# EAGLE library part ARDUINO-NANO-JUMPER-1 (library RC Car)
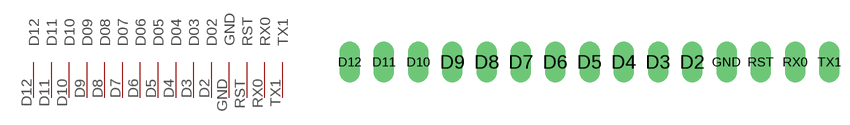
[diagram p2: symbol with the pads of ARDUINO-NANO-JUMPER-1; footprint ARDUINO-NANO-JUMPER-1]

Designator prefix -

## ARDUINO-NANO-JUMPER-1  [ARDUINO-NANO-JUMPER-1]
D2  D02
D3  D03
D4  D04
D5  D05
D6  D06
D7  D07
D8  D08
D9  D09
D10  D10
D11  D11
D12  D12
GND  GND
RST  RST
RX0  RX0
TX1  TX1

## Footprint ARDUINO-NANO-JUMPER-1 (pad centres in mm)
drill 1.016 long: D2 7.62,0; D3 5.08,0; D4 2.54,0; D5 0,0; D6 -2.54,0; D7 -5.08,0; D8 -7.62,0; D9 -10.16,0; D10 -12.7,0; D11 -15.24,0; D12 -17.78,0; GND 10.16,0; RST 12.7,0; RX0 15.24,0; TX1 17.78,0